# Altium footprint library CONNECTOR.PCBLIB: 232 footprints (part 4 of 15)
Each footprint in its own frame and in the unit in brackets; x right, y up, seen from the top. Pads: shape width x height; smd on the part's side, far side on the other; paste and mask are expansions set on the pad; w line width, h text height; cw(c..) or ccw(c..) is an arc to the next point about the centre after c.
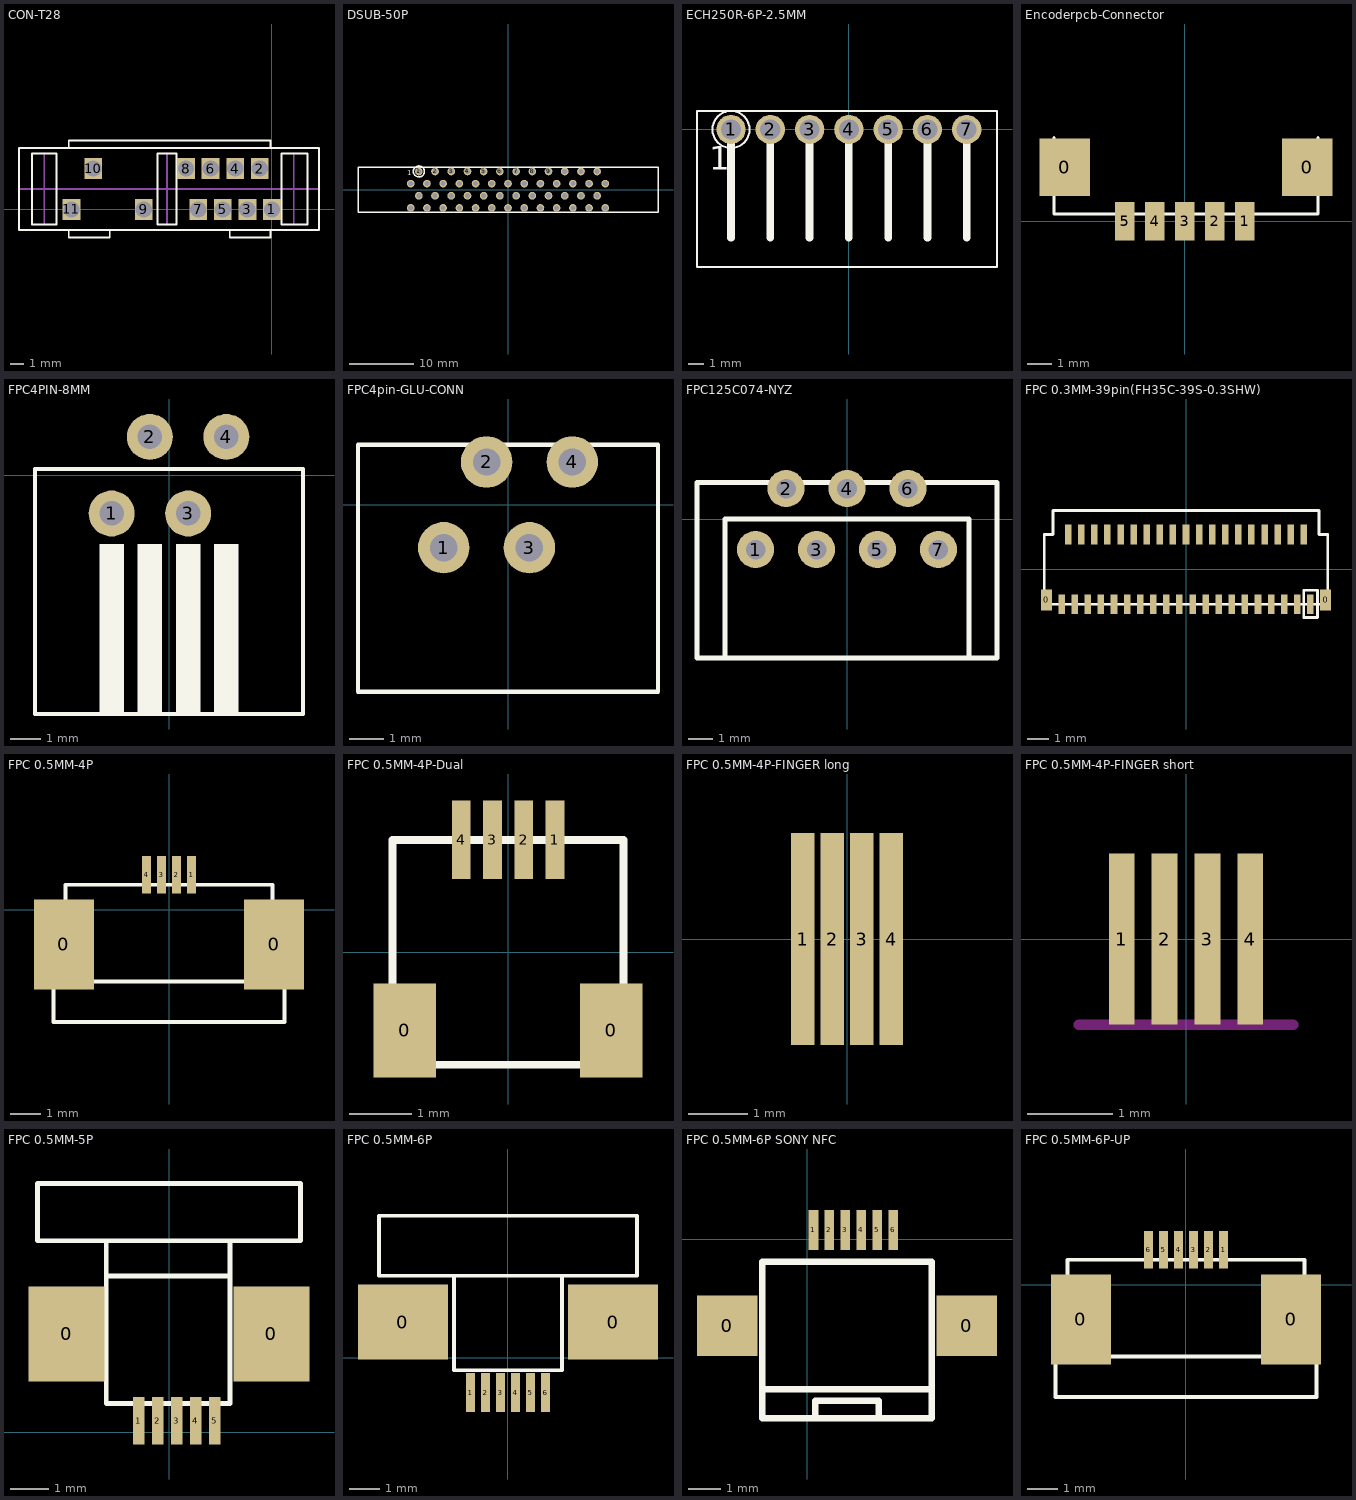
[diagram p3: the footprints below, top view; thin cyan lines are the x and y axes]

## CON-T28 [mm]
pads (11):
  rect 1.3x1.524 hole 1.2: 1(0,0) 2(-0.9,3) 3(-1.8,0) 4(-2.7,3) 5(-3.6,0) 6(-4.5,3) 7(-5.4,0) 8(-6.3,3) 9(-9.4,0) 10(-13.1,3) 11(-14.7,0)
TopOverlay:
  lines w0.127: -14.9,-1.5 -14.9,-2.05 -11.9,-2.05 -11.9,-1.5 ; -14.9,4.5 -14.9,5.05 -0.1,5.05 -0.1,4.5 ; -3.1,-1.5 -3.1,-2.05 -0.1,-2.05 -0.1,-1.5 ; -18.55,-1.5 -18.55,4.5 3.45,4.5 3.45,-1.5 -18.55,-1.5 ; -17.6,-1.1 -15.8,-1.1 -15.8,4.1 -17.6,4.1 -17.6,-1.1 ; -8.4,-1.1 -7,-1.1 -7,4.1 -8.4,4.1 -8.4,-1.1 ; 0.7,-1.1 0.7,4.1 2.6,4.1 2.6,-1.1 0.7,-1.1
Mechanical1:
  lines w0.127: -18.55,1.5 3.45,1.5 ; -16.7,-1.1 -16.7,4.1 ; -7.7,-1.1 -7.7,4.1 ; 1.6,-1.1 1.6,4.1

## DSUB-50P [mm]
pads (50):
  round 1.2 hole 0.8: 1(-13.97,2.857) 2(-11.43,2.857) 3(-8.89,2.857) 4(-6.35,2.857) 5(-3.81,2.857) 6(-1.27,2.857) 7(1.27,2.857) 8(3.81,2.857) 9(6.35,2.857) 10(8.89,2.857) 11(11.43,2.857) 12(13.97,2.857) 13(-15.24,0.953) 14(-12.7,0.953) 15(-10.16,0.953) 16(-7.62,0.953) 17(-5.08,0.953) 18(-2.54,0.953) 19(0,0.953) 20(2.54,0.953) 21(5.08,0.953) 22(7.62,0.953) 23(10.16,0.953) 24(12.7,0.953) 25(15.24,0.953) 26(-13.97,-0.953) 27(-11.43,-0.953) 28(-8.89,-0.953) 29(-6.35,-0.953) 30(-3.81,-0.953) 31(-1.27,-0.953) 32(1.27,-0.953) 33(3.81,-0.953) 34(6.35,-0.953) 35(8.89,-0.953) 36(11.43,-0.953) 37(13.97,-0.953) 38(-15.24,-2.857) 39(-12.7,-2.857) 40(-10.16,-2.857) 41(-7.62,-2.857) 42(-5.08,-2.857) 43(-2.54,-2.857) 44(0,-2.857) 45(2.54,-2.857) 46(5.08,-2.857) 47(7.62,-2.857) 48(10.16,-2.857) 49(12.7,-2.857) 50(15.24,-2.857)
TopOverlay:
  circle w0.254: c-13.97,2.857 r0.86
  lines w0.2: -23.5,-3.5 23.5,-3.5 23.5,3.5 -23.5,3.5 -23.5,-3.5
  text "1" at -15.8,2.3 h0.8

## ECH250R-6P-2.5MM [mm]
pads (7):
  round 1.9 hole 1.3: 1(-7.62,0) 2(-5.08,0) 3(-2.54,0) 4(0,0) 5(2.54,0) 6(5.08,0) 7(7.62,0)
TopOverlay:
  circle w0.127: c-7.62,0 r1.2
  lines w0.127: -9.82,-8.9 -9.82,1.2 9.58,1.2 9.58,-8.9 -9.82,-8.9
  lines w0.5: -7.62,-7 -7.62,0 ; -5.08,-7 -5.08,0 ; -2.54,-7 -2.54,0 ; 0,-7 0,0 ; 2.54,-7 2.54,0 ; 5.08,-7 5.08,0 ; 7.62,-7 7.62,0
  text "1" at -9.02,-2.6 h1.52

## Encoderpcb-Connector [mm] "Encoderpcb-Connector"
pads (7):
  rect 2.1x2.4 smd: 0(-5,2.25) 0(5.1,2.25)
  rect 0.8x1.6 smd: 1(2.5,0) 2(1.25,0) 3(0,0) 4(-1.25,0) 5(-2.5,0)
TopOverlay:
  lines w0.127: -5.45,3.5 -5.45,0.3 -2.375,0.3 5.55,0.3 5.55,3.5

## FPC4PIN-8MM [mm]
pads (4):
  round 1.5 hole 0.8: 1(-1.875,-1.25) 2(-0.625,1.25) 3(0.625,-1.25) 4(1.875,1.25)
TopOverlay:
  rectangle: 0.225,-7.8 1.025,-2.25
  rectangle: 1.475,-7.8 2.275,-2.25
  rectangle: -1.025,-7.8 -0.225,-2.25
  rectangle: -2.275,-7.8 -1.475,-2.25
  lines w0.127: -4.375,-7.8 4.375,-7.8 4.375,0.2 -4.375,0.2 -4.375,-7.8

## FPC4pin-GLU-CONN [mm]
pads (4):
  round 1.5 hole 0.8: 1(-1.875,-1.25) 2(-0.625,1.25) 3(0.625,-1.25) 4(1.875,1.25)
TopOverlay:
  lines w0.127: -4.375,-5.45 4.375,-5.45 4.375,1.75 -4.375,1.75 -4.375,-5.45

## FPC125C074-NYZ [mm]
pads (7):
  round 1.524 hole 0.8: 1(-3.75,-1.25) 2(-2.5,1.25) 3(-1.25,-1.25) 4(0,1.25) 5(1.25,-1.25) 6(2.5,1.25) 7(3.75,-1.25)
TopOverlay:
  lines w0.2: -5,-5.7 -5,0 5,0 5,-5.7 ; -6.15,-5.7 6.15,-5.7 6.15,1.5 -6.15,1.5 -6.15,-5.7

## FPC 0.3MM-39pin(FH35C-39S-0.3SHW) [mm] "FPC 0.3MM-39pin(FH35C-39S-0.3SHW)"
pads (41):
  rect 0.5x0.95 smd: 0(-6.4,-1.4) 0(6.4,-1.4)
  rect 0.3x0.9 smd: 1(5.7,-1.6) 2(5.4,1.6) 3(5.1,-1.6) 4(4.8,1.6) 5(4.5,-1.6) 6(4.2,1.6) 7(3.9,-1.6) 8(3.6,1.6) 9(3.3,-1.6) 10(3,1.6) 11(2.7,-1.6) 12(2.4,1.6) 13(2.1,-1.6) 14(1.8,1.6) 15(1.5,-1.6) 16(1.2,1.6) 17(0.9,-1.6) 18(0.6,1.6) 19(0.3,-1.6) 20(0,1.6) 21(-0.3,-1.6) 22(-0.6,1.6) 23(-0.9,-1.6) 24(-1.2,1.6) 25(-1.5,-1.6) 26(-1.8,1.6) 27(-2.1,-1.6) 28(-2.4,1.6) 29(-2.7,-1.6) 30(-3,1.6) 31(-3.3,-1.6) 32(-3.6,1.6) 33(-3.9,-1.6) 34(-4.2,1.6) 35(-4.5,-1.6) 36(-4.8,1.6) 37(-5.1,-1.6) 38(-5.4,1.6) 39(-5.7,-1.6)
TopOverlay:
  lines w0.127: 5.4,-1.6 5.4,-2.2 6.025,-2.2 6.025,-0.95 5.4,-0.95 5.4,-1.55 ; -6.5,-1.6 6.5,-1.6 6.5,1.6 6.1,1.6 6.1,2.7 -6.1,2.7 -6.1,1.6 -6.5,1.6 -6.5,-1.6

## FPC 0.5MM-4P [mm] "FPC 0.5MM-4P"
pads (6):
  rect 2x3 smd mask+0.05: 0(-3.5,-1.162) 0(3.5,-1.162)
  rect 0.3x1.25 smd mask+0.05: 1(0.75,1.162) 2(0.25,1.162) 3(-0.25,1.162) 4(-0.75,1.162)
TopOverlay:
  lines w0.127: -3.45,-2.4 -3.45,0.825 3.45,0.825 3.45,-2.4 ; -3.85,-3.75 3.85,-3.75 3.85,-2.4 -3.85,-2.4 -3.85,-3.75

## FPC 0.5MM-4P-Dual [mm] "FPC 0.5MM-4P-Dual"
pads (6):
  rect 1x1.5 smd mask+0.05: 0(-1.65,-1.25) 0(1.65,-1.25)
  rect 0.3x1.25 smd mask+0.05: 1(0.75,1.8) 2(0.25,1.8) 3(-0.25,1.8) 4(-0.75,1.8)
TopOverlay:
  lines w0.127: -1.85,-1.8 1.85,-1.8 1.85,1.8 -1.85,1.8 -1.85,-1.8

## FPC 0.5MM-4P-FINGER long [mm] "FPC 0.5MM-4P-FINGER long"
pads (4):
  rect 0.4x3.6 smd mask+0.05: 1(-0.75,0) 2(-0.25,0) 3(0.25,0) 4(0.75,0)

## FPC 0.5MM-4P-FINGER short [mm] "FPC 0.5MM-4P-FINGER short"
pads (4):
  rect 0.3x2 smd mask+0.05: 1(-0.75,0) 2(-0.25,0) 3(0.25,0) 4(0.75,0)
KeepOutLayer:
  lines w0.127: -1.25,-1 1.25,-1

## FPC 0.5MM-5P [mm]
pads (7):
  rect 2x2.5 smd: 0(-2.69,2.575) 0(2.69,2.575)
  rect 0.3x1.25 smd: 1(-0.8,0.3) 2(-0.3,0.3) 3(0.2,0.3) 4(0.7,0.3) 5(1.2,0.3)
TopOverlay:
  lines w0.127: -1.65,4.1 1.55,4.1 ; -1.65,5 -1.65,0.75 1.6,0.75 1.6,5 ; -3.45,5.025 3.45,5.025 3.45,6.525 -3.45,6.525 -3.45,5.025

## FPC 0.5MM-6P [mm]
pads (8):
  rect 3x2.5 smd: 0(-3.5,1.175) 0(3.5,1.175)
  rect 0.3x1.3 smd: 1(-1.25,-1.175) 2(-0.75,-1.175) 3(-0.25,-1.175) 4(0.25,-1.175) 5(0.75,-1.175) 6(1.25,-1.175)
TopOverlay:
  lines w0.127: -1.8,2.725 -1.8,-0.425 1.8,-0.425 1.8,2.725 ; -4.3,2.725 -4.3,4.725 4.3,4.725 4.3,2.725 -4.3,2.725

## FPC 0.5MM-6P SONY NFC [mm]
pads (8):
  rect 1.9x1.9 smd: 0(-2.5,-2.7) 0(5,-2.7)
  rect 0.3x1.25 smd: 1(0.2,0.3) 2(0.7,0.3) 3(1.2,0.3) 4(1.7,0.3) 5(2.2,0.3) 6(2.7,0.3)
TopOverlay:
  lines w0.2: 0.25,-5.55 0.25,-5.05 2.25,-5.05 2.25,-5.55 ; -1.4,-4.7 -1.4,-5.6 3.9,-5.6 3.9,-4.7 ; -1.4,-4.7 3.9,-4.7 ; -1.4,-4.7 -1.4,-0.7 3.9,-0.7 3.9,-4.7

## FPC 0.5MM-6P-UP [mm] "FPC 0.5MM-6P-UP"
pads (8):
  rect 2x3 smd mask+0.05: 0(-3.5,-1.162) 0(3.5,-1.162)
  rect 0.3x1.25 smd mask+0.05: 1(1.25,1.162) 2(0.75,1.162) 3(0.25,1.162) 4(-0.25,1.162) 5(-0.75,1.162) 6(-1.25,1.162)
TopOverlay:
  lines w0.127: -3.95,-2.4 -3.95,0.825 3.95,0.825 3.95,-2.4 ; -4.35,-3.75 4.35,-3.75 4.35,-2.4 -4.35,-2.4 -4.35,-3.75